# EAGLE library part TFT-2.8 (library Module)
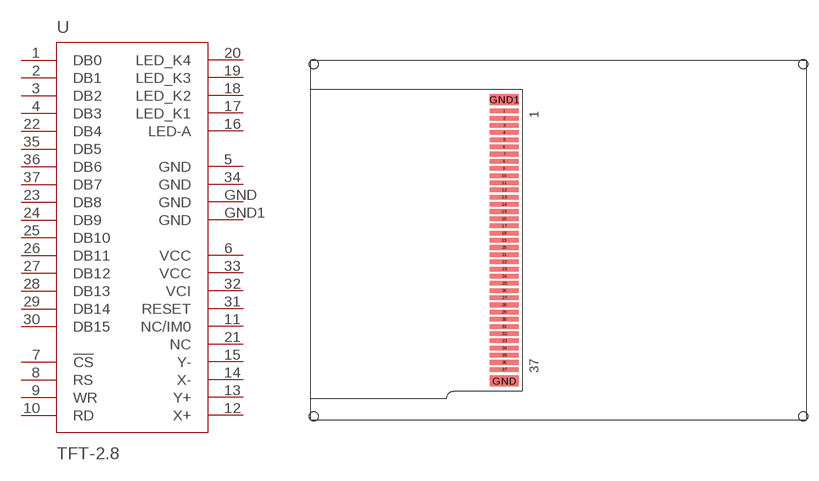
[diagram p4: symbol with the pads of 37P-1.0-60X50; footprint 37P-1.0-60X50]

Designator prefix U

## TFT-2.8  [37P-1.0-60X50]
1  DB0
2  DB1
3  DB2
4  DB3
5  GND
6  VCC
7  !CS
8  RS
9  WR
10  RD
11  NC/IM0
12  X+
13  Y+
14  X-
15  Y-
16  LED-A
17  LED_K1
18  LED_K2
19  LED_K3
20  LED_K4
21  NC
22  DB4
23  DB8
24  DB9
25  DB10
26  DB11
27  DB12
28  DB13
29  DB14
30  DB15
31  RESET
32  VCI
33  VCC
34  GND
35  DB5
36  DB6
37  DB7
GND  GND
GND1  GND

## Footprint 37P-1.0-60X50 (pad centres in mm)
smd 4 x 0.635: 1 27,43.019; 2 27,42.019; 3 27,41.019; 4 27,40.019; 5 27,39.019; 6 27,38.019; 7 27,37.019; 8 27,36.019; 9 27,35.019; 10 27,34.019; 11 27,33.019; 12 27,32.019; 13 27,31.019; 14 27,30.019; 15 27,29.019; 16 27,28.019; 17 27,27.019; 18 27,26.019; 19 27,25.019; 20 27,24.019; 21 27,23.019; 22 27,22.019; 23 27,21.019; 24 27,20.019; 25 27,19.019; 26 27,18.019; 27 27,17.019; 28 27,16.019; 29 27,15.019; 30 27,14.019; 31 27,13.019; 32 27,12.019; 33 27,11.019; 34 27,10.019; 35 27,9.019; 36 27,8.019; 37 27,7.019
smd 4 x 1.516: GND 27,5.419; GND1 27,44.619
hole 1.27 at 0.508,49.53
hole 1.27 at 68.58,49.53
hole 1.27 at 68.58,0.508
hole 1.27 at 0.508,0.508